# Altium footprint library dcdc.PcbLib: 13 footprints
Each footprint in its own frame and in the unit in brackets; x right, y up, seen from the top. Pads: shape width x height; smd on the part's side, far side on the other; paste and mask are expansions set on the pad; w line width, h text height; cw(c..) or ccw(c..) is an arc to the next point about the centre after c.
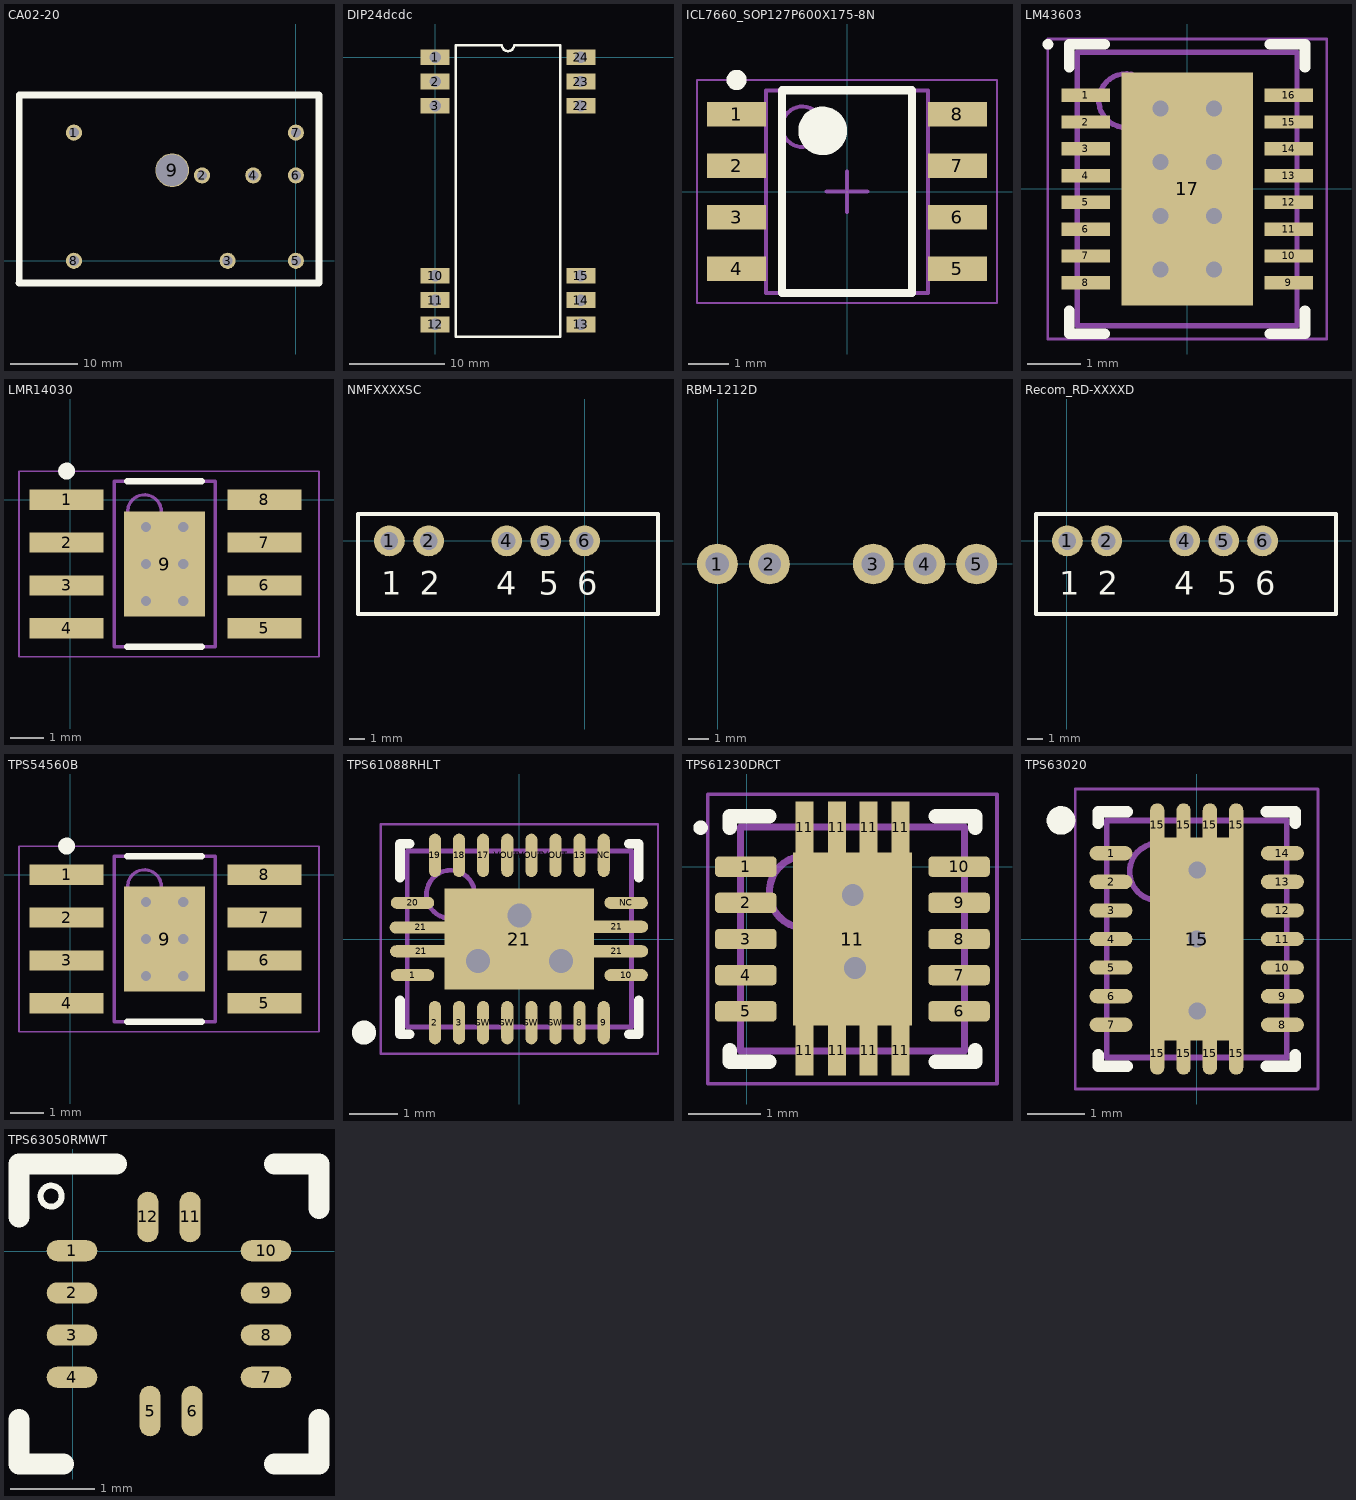
[diagram p0: the footprints below, top view; thin cyan lines are the x and y axes]

## CA02-20 [mm] "EMCO CA series"
height 12
pads (9):
  round 2.4 hole 1.5: 1(-33.02,19.05) 2(-13.97,12.7) 3(-10.16,0) 4(-6.35,12.7) 5(0,0) 6(0,12.7) 7(0,19.05) 8(-33.02,0)
  round 5 hole 4.75: 9(-18.41,13.46)
Top Overlay:
  lines w1: -41.195,-3.3 3.43,-3.3 3.43,24.65 -41.145,24.65 ; -41.17,-3.3 -41.17,24.475
3D body: height 0.25, standoff 0, extent -25.908,17.526 -25.908,17.526
3D body "CA_02-20.STEP": height 12.7, standoff -5.08, extent -41.275,-3.937 3.175,24.257

## DIP24dcdc [mil]
height 100
pads (12):
  rect 120x65 hole 47.24: 1(0,0) 2(0,-100) 3(0,-200) 10(0,-900) 11(0,-1000) 12(0,-1100) 13(600,-1100) 14(600,-1000) 15(600,-900) 22(600,-200) 23(600,-100) 24(600,0)
Top Overlay:
  lines w10: 85,-1150 85,50 275,50 ccw(c300,50) 325,50 515,50 515,-1150 85,-1150
3D body "tvn5wi.stp": height 401.57, standoff -149.61, extent -99.21,-1176.77 700,76.77

## ICL7660_SOP127P600X175-8N [mm] "SOP, 8-Leads, Body 4.90x3.90mm, Pitch 1.27mm, IPC Medium Density"
height 1.75
pads (8):
  rect 1.45x0.6 smd: 1(-2.725,1.905) 2(-2.725,0.635) 3(-2.725,-0.635) 4(-2.725,-1.905) 5(2.725,-1.905) 6(2.725,-0.635) 7(2.725,0.635) 8(2.725,1.905)
Top Overlay:
  circle w0.25: c-2.725,2.755 r0.125
  circle w0.6: c-0.6,1.5 r0.3
  lines w0.2: -1.6,-2.5 -1.6,2.5 1.6,2.5 1.6,-2.5 -1.6,-2.5
Mechanical 13:
  circle w0.1: c-1.1,1.6 r0.5
  lines w0.1: -2,-2.5 -2,2.5 2,2.5 2,-2.5 -2,-2.5
Mechanical 15:
  lines w0.05: -3.7,-2.75 -3.7,2.75 3.7,2.75 3.7,-2.75 -3.7,-2.75
  lines w0.1: -0.5,0 0.5,0 ; 0,-0.5 0,0.5
3D body: height 1.75, standoff 0.1, extent -2,-2.5 2,2.5

## LM43603 [mm] "DC-DC, 36V In, Variable Out, 3A"
height 1
pads (17):
  rect 0.9x0.25 smd: 1(-1.895,1.75) 2(-1.895,1.25) 3(-1.895,0.75) 4(-1.895,0.25) 5(-1.895,-0.25) 6(-1.895,-0.75) 7(-1.895,-1.25) 8(-1.895,-1.75) 9(1.895,-1.75) 10(1.895,-1.25) 11(1.895,-0.75) 12(1.895,-0.25) 13(1.895,0.25) 14(1.895,0.75) 15(1.895,1.25) 16(1.895,1.75)
  rect 2.45x4.35 smd paste-1.225: 17(0,0)
via 0.5,-1.5 diameter 0.6 hole 0.3
via -0.5,-1.5 diameter 0.6 hole 0.3
via 0.5,-0.5 diameter 0.6 hole 0.3
via -0.5,-0.5 diameter 0.6 hole 0.3
via 0.5,0.5 diameter 0.6 hole 0.3
via -0.5,0.5 diameter 0.6 hole 0.3
via 0.5,1.5 diameter 0.6 hole 0.3
via -0.5,1.5 diameter 0.6 hole 0.3
Top Overlay:
  circle w0.1: c-2.6,2.7 r0.05
  lines w0.2: -2.2,-2.275 -2.2,-2.7 -1.545,-2.7 ; -2.2,2.275 -2.2,2.7 -1.545,2.7 ; 1.545,-2.7 2.2,-2.7 2.2,-2.275 ; 1.545,2.7 2.2,2.7 2.2,2.275
Top Paste:
  rectangle: 0.1,-2.075 1.13,-0.825
  rectangle: 0.1,-0.625 1.13,0.625
  rectangle: 0.1,0.825 1.13,2.075
  rectangle: -1.13,-2.075 -0.1,-0.825
  rectangle: -1.13,-0.625 -0.1,0.625
  rectangle: -1.13,0.825 -0.1,2.075
Mechanical 13:
  circle w0.1: c-1.15,1.65 r0.5
  lines w0.1: -2.05,-2.55 2.05,-2.55 2.05,2.55 -2.05,2.55 -2.05,-2.55
Mechanical 15:
  lines w0.05: -2.605,-2.8 2.605,-2.8 2.605,2.8 -2.605,2.8 -2.605,-2.8
  lines w0.1: -0.5,0 0.5,0 ; 0,-0.5 0,0.5
3D body: height 1, standoff 0, extent -2.05,-2.55 2.05,2.55

## LMR14030 [mm] "40V, 3.5A SIMPLE SWITCHER, 2.2MHz Step-Down Regulator with 40uA IQ"
height 2.65
pads (9):
  rect 2.2x0.6 smd: 1(-0.114,0) 2(-0.114,-1.27) 3(-0.114,-2.54) 4(-0.114,-3.81) 5(5.75,-3.81) 6(5.75,-2.54) 7(5.75,-1.27) 8(5.75,0)
  rect 2.4x3.1 smd: 9(2.794,-1.905)
via 2.244,-0.805 diameter 0.6 hole 0.3
via 3.344,-0.805 diameter 0.6 hole 0.3
via 2.244,-1.905 diameter 0.6 hole 0.3
via 3.344,-1.905 diameter 0.6 hole 0.3
via 2.244,-3.005 diameter 0.6 hole 0.3
via 3.344,-3.005 diameter 0.6 hole 0.3
Top Overlay:
  circle w0.25: c-0.114,0.85 r0.125
  lines w0.2: 1.694,-4.355 3.894,-4.355 ; 1.694,0.545 3.894,0.545
Mechanical 13:
  circle w0.1: c2.194,-0.355 r0.5
  lines w0.1: 1.294,-4.355 1.294,0.545 4.294,0.545 4.294,-4.355 1.294,-4.355
Mechanical 15:
  lines w0.05: -1.524,-4.655 -1.524,0.845 7.366,0.845 7.366,-4.655 -1.524,-4.655
  lines w0.1: 2.294,-1.905 3.294,-1.905 ; 2.794,-2.405 2.794,-1.405
3D body: height 2.65, standoff 0.1, extent 1.294,-4.355 4.294,0.545

## NMFXXXXSC [mm] "murata NMF"
height 10
pads (5):
  round 2 hole 1.15: 1(-12.71,0) 2(-10.16,0) 4(-5.08,0) 5(-2.55,0) 6(-0.02,0)
Top Overlay:
  lines w0.25: -14.75,-4.75 4.75,-4.75 4.75,1.75 -14.75,1.75 -14.75,-4.75
  text "1" at -13.25,-3.5 h1.52
  text "2" at -10.75,-3.5 h1.52
  text "4" at -5.75,-3.5 h1.52
  text "5" at -3,-3.5 h1.52
  text "6" at -0.5,-3.5 h1.52
3D body: height 10, standoff 0, extent -14.75,-4.75 4.75,1.75

## RBM-1212D [mm]
pads (5):
  round 2 hole 1.15: 1(-0.01,-0.02) 2(2.54,-0.02) 3(7.62,-0.02) 4(10.15,-0.02) 5(12.68,-0.02)
3D body "RBM-1212D.stp": height 8.45, standoff -3.04, extent -1.92,-4.76 14.63,1.24

## Recom_RD-XXXXD [mm] "recom RD series dual footprint"
height 10.2
pads (5):
  round 2 hole 1.15: 1(0.04,0) 2(2.59,0) 4(7.67,0) 5(10.2,0) 6(12.73,0)
Top Overlay:
  lines w0.25: -2,-4.75 -2,1.75 17.5,1.75 17.5,-4.75 -2,-4.75
  text "6" at 12.25,-3.5 h1.52
  text "5" at 9.75,-3.5 h1.52
  text "4" at 7,-3.5 h1.52
  text "2" at 2,-3.5 h1.52
  text "1" at -0.5,-3.5 h1.52
3D body: height 10, standoff 0, extent -2,-4.75 17.5,1.75

## TPS54560B [mm] "DC-DC Switching Buck (Step Down) Regulator, Adjustable, 4.5V to 60V in, 0.8V-58.8V/5A out"
height 2.65
pads (9):
  rect 2.2x0.6 smd: 1(-0.114,0) 2(-0.114,-1.27) 3(-0.114,-2.54) 4(-0.114,-3.81) 5(5.75,-3.81) 6(5.75,-2.54) 7(5.75,-1.27) 8(5.75,0)
  rect 2.4x3.1 smd: 9(2.794,-1.905)
via 2.244,-0.805 diameter 0.6 hole 0.3
via 3.344,-0.805 diameter 0.6 hole 0.3
via 2.244,-1.905 diameter 0.6 hole 0.3
via 3.344,-1.905 diameter 0.6 hole 0.3
via 2.244,-3.005 diameter 0.6 hole 0.3
via 3.344,-3.005 diameter 0.6 hole 0.3
Top Overlay:
  circle w0.25: c-0.114,0.85 r0.125
  lines w0.2: 1.694,-4.355 3.894,-4.355 ; 1.694,0.545 3.894,0.545
Mechanical 13:
  circle w0.1: c2.194,-0.355 r0.5
  lines w0.1: 1.294,-4.355 1.294,0.545 4.294,0.545 4.294,-4.355 1.294,-4.355
Mechanical 15:
  lines w0.05: -1.524,-4.655 -1.524,0.845 7.366,0.845 7.366,-4.655 -1.524,-4.655
  lines w0.1: 2.294,-1.905 3.294,-1.905 ; 2.794,-2.405 2.794,-1.405
3D body: height 2.65, standoff 0.1, extent 1.294,-4.355 4.294,0.545

## TPS61088RHLT [mm] "QFN, 24-Leads, Body 4.50x3.50mm, Pitch 0.50mm, Thermal Pad 3.10x2.10mm, IPC Medium Density"
height 0.8
pads (25):
  oval 0.9x0.25 smd: 1(-2.215,-0.75) 10(2.215,-0.75) 20(-2.215,0.75) NC(2.215,0.75)
  oval 0.25x0.9 smd: 2(-1.75,-1.735) 3(-1.25,-1.735) 8(1.25,-1.735) 9(1.75,-1.735) 13(1.25,1.735) 17(-0.75,1.735) 18(-1.25,1.735) 19(-1.75,1.735) NC(1.75,1.735) SW(-0.75,-1.735) SW(-0.25,-1.735) SW(0.25,-1.735) SW(0.75,-1.735) VOUT(-0.25,1.735) VOUT(0.25,1.735) VOUT(0.75,1.735)
  oval 1.3x0.25 smd: 21(-2.04,0.24) 21(-2.032,-0.254) 21(2.022,-0.254) 21(2.022,0.254)
  rect 3.1x2.1 smd: 21(0,0)
via 0,0.49 diameter 1 hole 0.5
via 0.86,-0.46 diameter 1 hole 0.5
via -0.86,-0.46 diameter 1 hole 0.5
Top Overlay:
  circle w0.25: c-3.22,-1.94 r0.125
  lines w0.2: -2.475,-1.275 -2.475,-1.975 -2.275,-1.975 ; -2.475,1.275 -2.475,1.975 -2.275,1.975 ; 2.275,-1.975 2.475,-1.975 2.475,-1.275 ; 2.275,1.975 2.475,1.975 2.475,1.275
Mechanical 13:
  circle w0.1: c-1.425,0.925 r0.5
  lines w0.1: -2.325,-1.825 -2.325,1.825 2.325,1.825 2.325,-1.825 -2.325,-1.825
Mechanical 15:
  lines w0.05: -2.875,-2.375 -2.875,2.375 2.875,2.375 2.875,-2.375 -2.875,-2.375
  lines w0.1: -0.5,0 0.5,0 ; 0,-0.5 0,0.5
3D body "TPS61088.stp": height 0.97, standoff -0.03, extent -2.24,-1.75 2.26,1.75

## TPS61230DRCT [mm]
pads (19):
  rrect36% 0.85x0.28 smd paste-0.025 mask+0.07: 1(-0.01,0.001) 2(-0.01,-0.499) 3(-0.01,-0.999) 4(-0.01,-1.499) 5(-0.01,-1.999) 6(2.94,-1.999) 7(2.94,-1.499) 8(2.94,-0.999) 9(2.94,-0.499) 10(2.94,0.001)
  rect 0.25x0.7 smd: 11(0.8,-2.54) 11(0.8,0.55) 11(1.25,-2.54) 11(1.25,0.55) 11(1.69,-2.54) 11(1.69,0.55) 11(2.13,-2.54) 11(2.13,0.55)
  rect 1.65x2.4 smd paste-0.825 mask+0.07: 11(1.465,-0.999)
via 1.5,-1.4 diameter 0.7 hole 0.3
via 1.47,-0.39 diameter 0.7 hole 0.3
Top Overlay:
  circle w0.1: c-0.635,0.541 r0.05
  lines w0.2: -0.235,-2.539 -0.235,-2.699 0.315,-2.699 ; -0.235,0.541 -0.235,0.701 0.315,0.701 ; 2.615,-2.699 3.165,-2.699 3.165,-2.539 ; 2.615,0.701 3.165,0.701 3.165,0.541
Top Paste:
  rectangle: 0.675,-2.159 1.355,-1.109
  region: 2.255,-1.109 1.575,-1.109 1.575,-2.159 2.255,-2.159
  region: 2.255,0.161 1.575,0.161 1.575,-0.889 2.255,-0.889
  rectangle: 0.675,-0.889 1.355,0.161
Mechanical 13:
  circle w0.1: c0.815,-0.349 r0.5
  lines w0.1: -0.085,-2.549 3.015,-2.549 3.015,0.551 -0.085,0.551 -0.085,-2.549
Mechanical 15:
  lines w0.05: -0.535,-2.999 3.465,-2.999 3.465,1.001 -0.535,1.001 -0.535,-2.999
3D body: height 1, standoff 0, extent -0.085,-2.549 3.015,0.551

## TPS63020 [mm] "TPS63020 DC DC"
height 1
pads (23):
  oval 0.75x0.25 smd: 1(-1.5,1.5) 2(-1.5,1) 3(-1.5,0.5) 4(-1.5,0) 5(-1.5,-0.5) 6(-1.5,-1) 7(-1.5,-1.5) 8(1.5,-1.5) 9(1.5,-1) 10(1.5,-0.5) 11(1.5,0) 12(1.5,0.5) 13(1.5,1) 14(1.5,1.5)
  oval 0.25x0.75 smd: 15(-0.69,-2) 15(-0.69,2) 15(-0.23,-2) 15(-0.23,2) 15(0.23,-2) 15(0.23,2) 15(0.69,-2) 15(0.69,2)
  rect 1.64x3.55 smd: 15(0,0)
via 0.01,1.21 diameter 0.6 hole 0.3
via 0,0 diameter 0.6 hole 0.3
via 0.01,-1.26 diameter 0.6 hole 0.3
Top Overlay:
  circle w0.25: c-2.375,2.075 r0.125
  lines w0.2: -1.725,-2.025 -1.725,-2.225 -1.215,-2.225 ; -1.725,2.025 -1.725,2.225 -1.215,2.225 ; 1.215,-2.225 1.725,-2.225 1.725,-2.025 ; 1.215,2.225 1.725,2.225 1.725,2.025
Mechanical 13:
  circle w0.1: c-0.675,1.175 r0.5
  lines w0.1: -1.575,-2.075 -1.575,2.075 1.575,2.075 1.575,-2.075 -1.575,-2.075
Mechanical 15:
  lines w0.05: -2.125,-2.625 -2.125,2.625 2.125,2.625 2.125,-2.625 -2.125,-2.625
  lines w0.1: -0.5,0 0.5,0 ; 0,-0.5 0,0.5
3D body: height 1, standoff 0, extent -1.61,-2.09 1.6,2.08

## TPS63050RMWT [mm] "VQFN-12"
pads (12):
  oval 0.6x0.25 smd paste+0 mask+0.051: 1(-0.012,0.008) 2(-0.012,-0.492) 3(-0.012,-0.992) 4(-0.012,-1.492) 7(2.288,-1.492) 8(2.288,-0.992) 9(2.288,-0.492) 10(2.288,0.008)
  oval 0.25x0.6 smd paste+0 mask+0.051: 5(0.913,-1.892) 6(1.413,-1.892) 11(1.388,0.408) 12(0.888,0.408)
Top Overlay:
  circle w0.07: c-0.259,0.655 r0.125
  lines w0.25: -0.64,-1.992 -0.64,-2.52 -0.112,-2.52 ; -0.64,0.408 -0.64,1.036 0.513,1.036 ; 2.388,-2.52 2.916,-2.52 2.916,-1.992 ; 2.388,1.036 2.916,1.036 2.916,0.508
3D body: height 3, standoff 0, extent -0.132,-2.012 2.408,0.528